# Altium footprint library ST UFDFPN-8 MLP8.PCBLIB: 1 footprints
Each footprint in its own frame and in the unit in brackets; x right, y up, seen from the top. Pads: shape width x height; smd on the part's side, far side on the other; paste and mask are expansions set on the pad; w line width, h text height; cw(c..) or ccw(c..) is an arc to the next point about the centre after c.
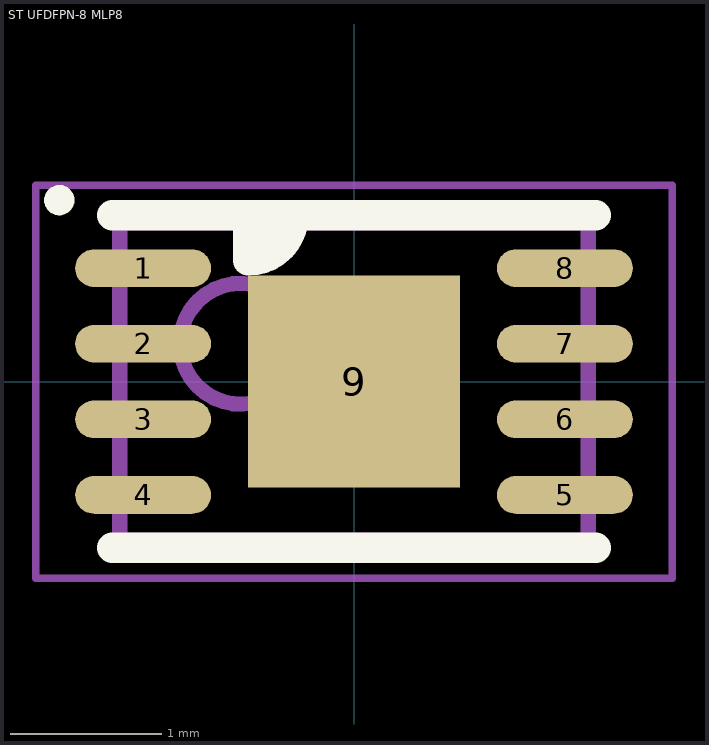
[diagram p0: the footprint, top view; thin cyan lines are the x and y axes]

## ST UFDFPN-8 MLP8 [mm] "UFDFPN, 8-Leads, Body 2.00x3.00mm, Pitch 0.50mm, Thermal Pad 1.40x1.40mm, IPC Medium Density"
height 0.6
pads (9):
  oval 0.9x0.25 smd: 1(-1.395,0.75) 2(-1.395,0.25) 3(-1.395,-0.25) 4(-1.395,-0.75) 5(1.395,-0.75) 6(1.395,-0.25) 7(1.395,0.25) 8(1.395,0.75)
  rect 1.4x1.4 smd mask+0: 9(0,0)
Top Overlay:
  circle w0.1: c-1.95,1.2 r0.05
  region: -0.4,1.1 -0.7,1.1 -0.7,0.8 -0.64,0.8 -0.53,0.846 -0.446,0.93 -0.4,1.04
  lines w0.2: -1.6,-1.1 1.6,-1.1 ; -1.6,1.1 1.6,1.1 ; -0.7,1.1 -0.7,0.8 ; -0.4,1.1 cw(c-0.7,1.1) -0.7,0.8 ; -0.7,0.8 -0.7,0.8
Mechanical 13:
  circle w0.1: c-0.75,0.25 r0.4
  lines w0.1: -1.55,-1.05 1.55,-1.05 1.55,1.05 -1.55,1.05 -1.55,-1.05
Mechanical 15:
  lines w0.05: -2.105,-1.3 2.105,-1.3 2.105,1.3 -2.105,1.3 -2.105,-1.3
  lines w0.1: -0.5,0 0.5,0 ; 0,-0.5 0,0.5
3D body: height 0.6, standoff 0, extent -1.55,-1.05 1.55,1.05